# Altium footprint library SW108_0713.PcbLib: 12 footprints
Each footprint in its own frame and in the unit in brackets; x right, y up, seen from the top. Pads: shape width x height; smd on the part's side, far side on the other; paste and mask are expansions set on the pad; w line width, h text height; cw(c..) or ccw(c..) is an arc to the next point about the centre after c.
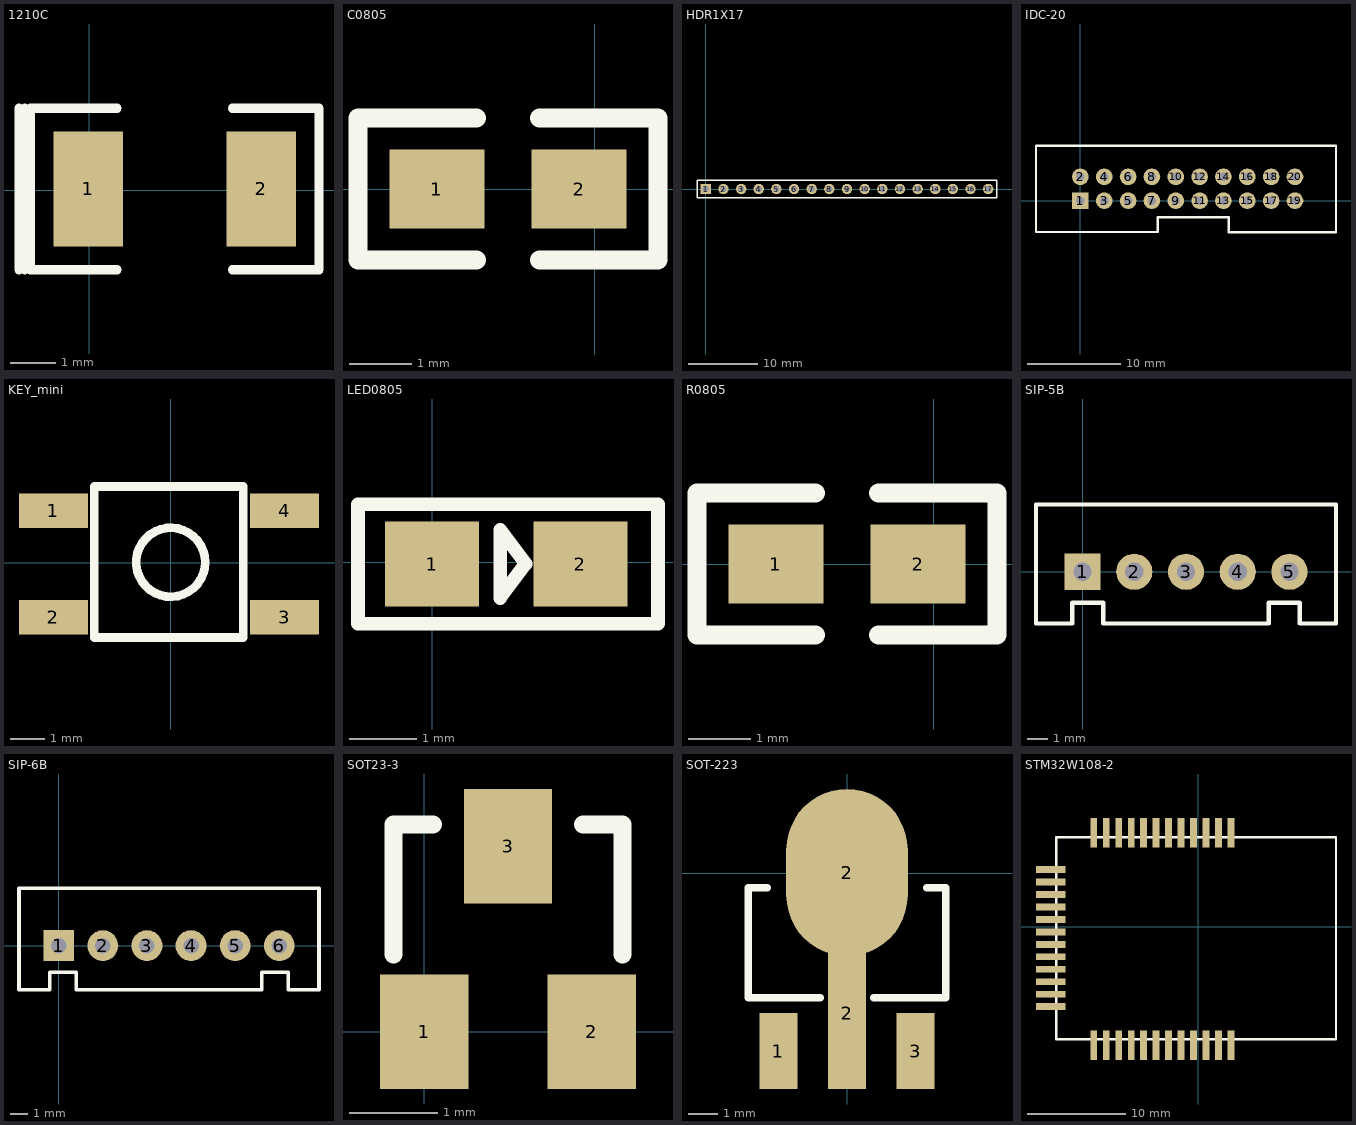
[diagram p0: the footprints below, top view; thin cyan lines are the x and y axes]

## 1210C [mil]
pads (2):
  rect 60x100 smd: 1(-1,1) 2(149,1)
Top Overlay:
  lines w8: -61,-69 -61,71 ; -56,-69 -56,71 ; 24,-69 -51,-69 -51,71 24,71 ; 124,-69 199,-69 199,71 124,71

## C0805 [mil]
height 39.37
pads (2):
  rect 60x50 smd: 1(-100,0) 2(-10,0)
Top Overlay:
  lines w12: -75,-45 -150,-45 -150,45 -75,45 ; -35,-45 40,-45 40,45 -35,45

## HDR1X17 [mm] "Connector; Header; 17 Position"
pads (17):
  rect 1.5x1.5 hole 0.9: 1(0,0)
  round 1.5 hole 0.9: 2(2.54,0) 3(5.08,0) 4(7.62,0) 5(10.16,0) 6(12.7,0) 7(15.24,0) 8(17.78,0) 9(20.32,0) 10(22.86,0) 11(25.4,0) 12(27.94,0) 13(30.48,0) 14(33.02,0) 15(35.56,0) 16(38.1,0) 17(40.64,0)
Top Overlay:
  lines w0.2: -1.27,-1.27 -1.27,1.27 0.635,1.27 41.91,1.27 41.91,-1.27 -1.27,-1.27

## IDC-20 [mil]
pads (20):
  rect 70x70 hole 35: 1(1,0)
  round 70 hole 35: 2(1,100) 3(101,0) 4(101,100) 5(201,0) 6(201,100) 7(301,0) 8(301,100) 9(401,0) 10(401,100) 11(501,0) 12(501,100) 13(601,0) 14(601,100) 15(701,0) 16(701,100) 17(801,0) 18(801,100) 19(901,0) 20(901,100)
Top Overlay:
  lines w10: -185.22,-131.58 -185.22,231.02 1073.05,231.02 1073.05,-133.16 623.91,-133.16 623.91,-68.79 325.91,-68.79 325.91,-131.58 -185.22,-131.58

## KEY_mini [mm]
pads (4):
  rect 2x1 smd: 1(-3.395,1.51) 2(-3.395,-1.59) 3(3.305,-1.59) 4(3.305,1.51)
Top Overlay:
  circle w0.254: c0.005,0.01 r1
  lines w0.254: -2.211,-2.175 2.105,-2.175 2.105,2.21 -2.211,2.21 -2.211,-2.175

## LED0805 [mm]
pads (2):
  rect 1.4x1.27 smd: 1(0,-0.025) 2(2.21,-0.025)
Top Overlay:
  lines w0.203: 1.013,-0.529 1.394,-0.021 ; 1.016,-0.533 1.016,0.483 1.397,-0.025 ; -1.104,-0.914 3.367,-0.914 3.367,0.864 -1.104,0.864 -1.104,-0.914

## R0805 [mil]
pads (2):
  rect 60x50 smd: 1(-100,0) 2(-10,0)
Top Overlay:
  lines w12: -75,-45 -150,-45 -150,45 -75,45 ; -35,-45 40,-45 40,45 -35,45

## SIP-5B [mil]
pads (5):
  rect 70x70 hole 35: 1(0,0)
  round 70 hole 35: 2(100,0) 3(200,0) 4(300,0) 5(400,0)
Top Overlay:
  lines w8: -90,-100 -20,-100 -20,-60 40,-60 40,-100 360,-100 360,-60 420,-60 420,-100 490,-100 490,130 -90,130 -90,-100

## SIP-6B [mil]
pads (6):
  rect 70x70 hole 35: 1(0,0)
  round 70 hole 35: 2(100,0) 3(200,0) 4(300,0) 5(400,0) 6(500,0)
Top Overlay:
  lines w8: -90,-100 -90,130 590,130 590,-100 520,-100 520,-60 460,-60 460,-100 40,-100 40,-60 -20,-60 -20,-100 -90,-100

## SOT23-3 [mm]
pads (3):
  rect 1x1.3 smd: 1(0,0) 2(1.9,0) 3(0.95,2.1)
Top Overlay:
  lines w0.203: -0.35,0.875 -0.35,2.35 0.1,2.35 ; 1.8,2.35 2.25,2.35 2.25,0.875

## SOT-223 [mil]
pads (4):
  rect 50x100 smd: 1(-90.5,-234) 3(90.5,-234)
  rect 50x200 smd: 2(0,-184)
  oval 160x220 smd: 2(0,1)
Top Overlay:
  lines w10: -105,-19 -130,-19 -130,-164 -35,-164 ; 35,-164 130,-164 130,-19 105,-19

## STM32W108-2 [mil]
pads (36):
  rect 27.56x118.11 smd: 1(131,377) 2(81,377) 3(31,377) 4(-19,377) 5(-69,377) 6(-119,377) 7(-169,377) 8(-219,377) 9(-269,377) 10(-319,377) 11(-369,377) 12(-419,377) 25(-419,-476) 26(-369,-476) 27(-319,-476) 28(-269,-476) 29(-219,-476) 30(-169,-476) 31(-119,-476) 32(-69,-476) 33(-19,-476) 34(31,-476) 35(81,-476) 36(131,-476)
  rect 118.11x27.56 smd: 13(-592,229) 14(-592,179) 15(-592,129) 16(-592,79) 17(-592,29) 18(-592,-21) 19(-592,-71) 20(-592,-121) 21(-592,-171) 22(-592,-221) 23(-592,-271) 24(-592,-321)
Top Overlay:
  lines w10: -569,-451 553.05,-451 ; -569,-448.09 -569,359 553.05,359 553.05,-448.09